# Altium footprint library 电阻.PcbLib: 32 footprints (part 1 of 2)
Each footprint in its own frame and in the unit in brackets; x right, y up, seen from the top. Pads: shape width x height; smd on the part's side, far side on the other; paste and mask are expansions set on the pad; w line width, h text height; cw(c..) or ccw(c..) is an arc to the next point about the centre after c.
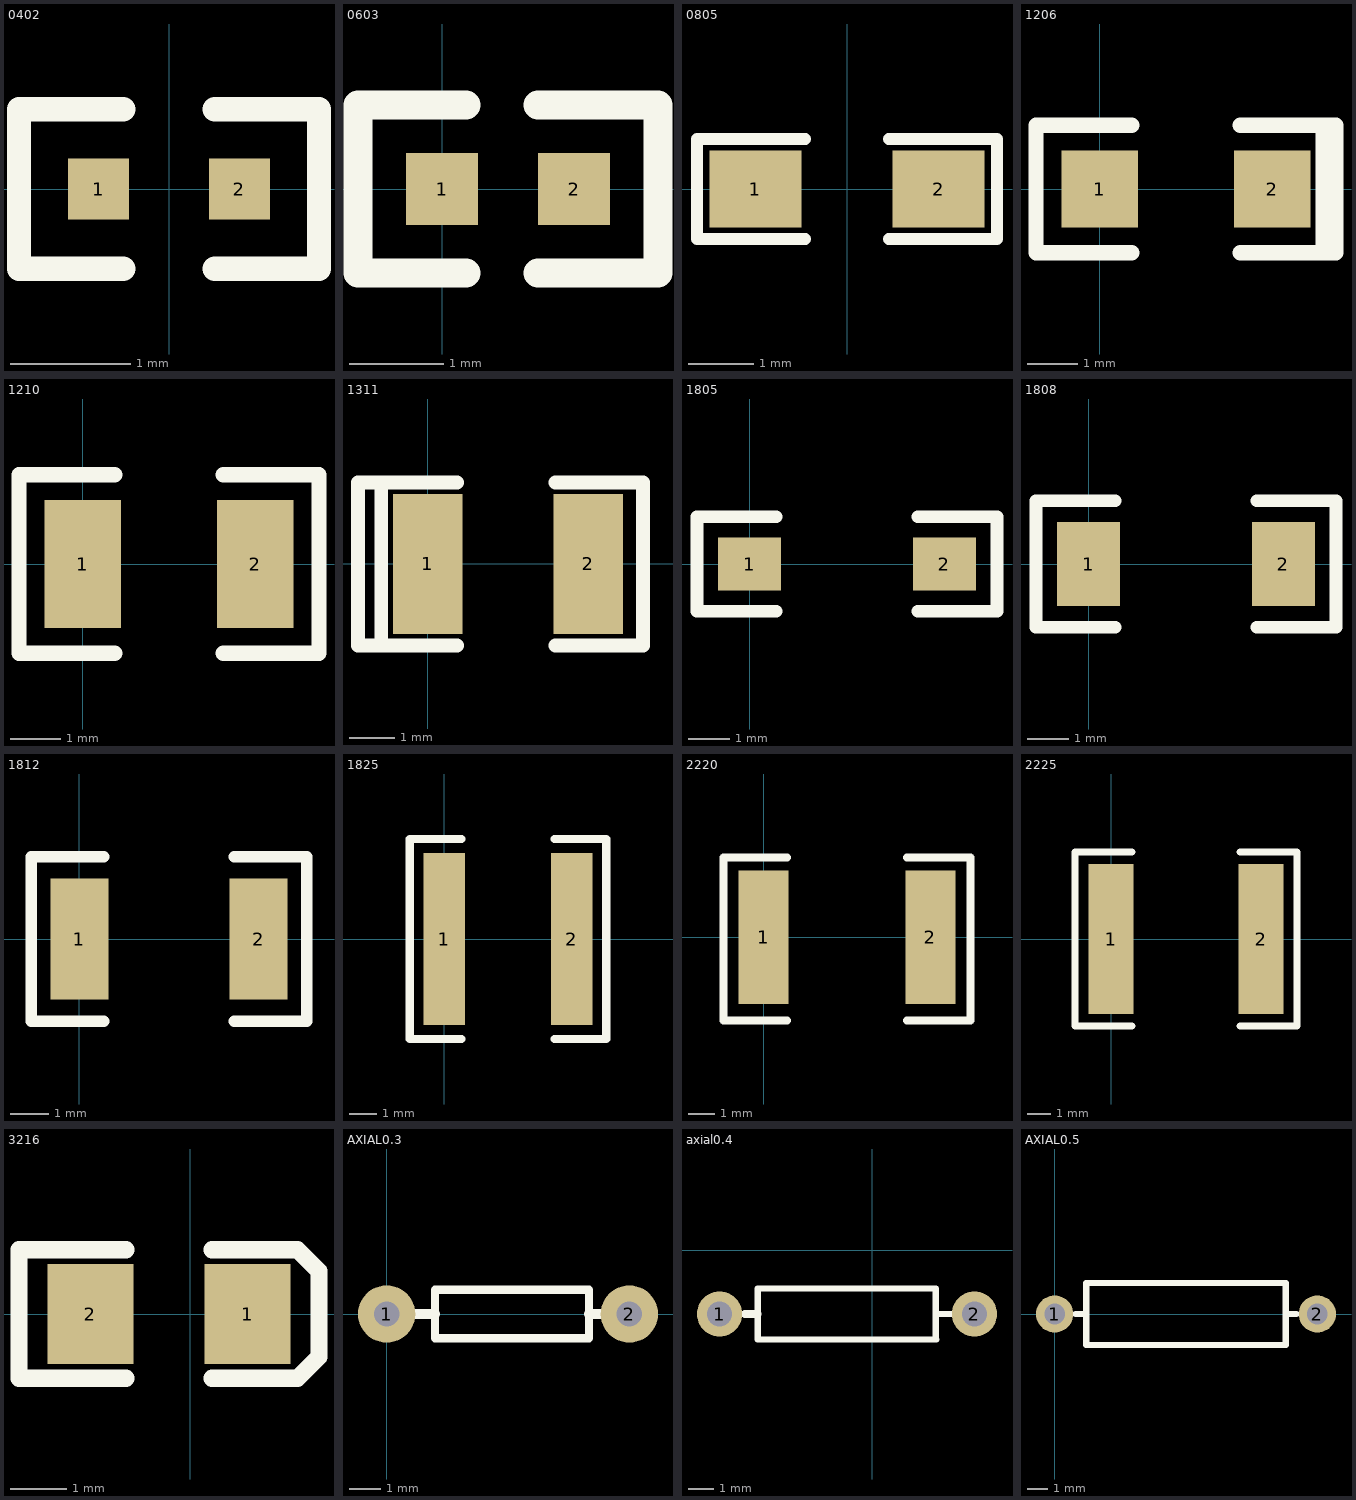
[diagram p0: the footprints below, top view; thin cyan lines are the x and y axes]

## 0402 [mil]
pads (2):
  rect 20x20 smd: 1(-23,0) 2(23,0)
Top Overlay:
  lines w8: -15,-26 -49,-26 -49,26 -15,26 ; 15,-26 49,-26 49,26 15,26
3D body "R0402.STEP": height 13.78, standoff 0, extent -19.69,-9.84 19.69,9.84

## 0603 [mil]
pads (2):
  rect 30x30 smd: 1(0,0) 2(55,0)
Top Overlay:
  lines w12: 10,-35 -35,-35 -35,35 10,35 ; 40,-35 90,-35 90,35 40,35
3D body "R0603.STEP": height 17.72, standoff 0, extent -6.5,-15.75 56.5,15.75

## 0805 [mil]
pads (2):
  rect 55.12x46 smd: 1(-55,0) 2(55,0)
Top Overlay:
  lines w7: -25,-30 -90,-30 -90,30 -25,30 ; 25,-30 90,-30 90,30 25,30
3D body "R0805.STEP": height 21.65, standoff 0, extent -39.36,-24.8 39.38,24.81

## 1206 [mil]
pads (2):
  rect 60x60 smd: 1(0,0) 2(135,0)
Top Overlay:
  lines w12: 25,-50 -50,-50 -50,50 25,50 ; 110,-50 185,-50 185,50 110,50 ; 175,-50 175,50
3D body "R1206.STEP": height 23.62, standoff 0, extent 2.01,-31.5 128,31.5

## 1210 [mil]
pads (2):
  rect 60x100 smd: 1(0,0) 2(135,0)
Top Overlay:
  lines w12: 25,-70 -50,-70 -50,70 25,70 ; 110,-70 185,-70 185,70 110,70
3D body "CAPC3225(1210).STEP": height 51.18, standoff 0, extent 2,-49.22 127.99,49.21

## 1311 [mil]
pads (2):
  rect 60x120 smd: 1(0,0) 2(138,0)
Top Overlay:
  lines w11.81: -60,-70 -60,70 ; -40,-70 -40,70
  lines w12: -60,-70 25,-70 ; -60,70 25,70 ; 110,-70 185,-70 185,70 110,70

## 1805 [mil]
pads (2):
  rect 60x50 smd: 1(0,0) 2(185,0)
Top Overlay:
  lines w12: 25,-45 -50,-45 -50,45 25,45 ; 160,-45 235,-45 235,45 160,45

## 1808 [mil]
pads (2):
  rect 60x80 smd: 1(0,0) 2(185,0)
Top Overlay:
  lines w12: 25,-60 -50,-60 -50,60 25,60 ; 160,-60 235,-60 235,60 160,60

## 1812 [mil]
pads (2):
  rect 60x125 smd: 1(0,0) 2(185,0)
Top Overlay:
  lines w12: 25,-85 -50,-85 -50,85 25,85 ; 160,-85 235,-85 235,85 160,85
3D body "CAPC4532(1812).STEP": height 39.37, standoff 0, extent 1.41,-63 178.58,62.99

## 1825 [mil]
pads (2):
  rect 60x250 smd: 1(0,0) 2(185,0)
Top Overlay:
  lines w12: 25,-145 -50,-145 -50,145 25,145 ; 160,-145 235,-145 235,145 160,145
3D body "CAPC4564(1825).STEP": height 59.06, standoff 0, extent 11.41,-125.99 188.58,125.98

## 2220 [mil]
pads (2):
  rect 75x200 smd: 1(0,0) 2(250,0)
Top Overlay:
  lines w12: 35,-125 -60,-125 -60,120 35,120 ; 215,-125 310,-125 310,120 215,120
3D body "CAPC5750(2220).STEP": height 90.55, standoff 0, extent 12.79,-98.43 237.2,98.42

## 2225 [mil]
pads (2):
  rect 75x250 smd: 1(0,0) 2(250,0)
Top Overlay:
  lines w12: 35,-145 -60,-145 -60,145 35,145 ; 215,-145 310,-145 310,145 215,145
3D body "CAPC5764(2225).STEP": height 51.18, standoff 0, extent 12.79,-125 237.2,125

## 3216 [mil]
pads (2):
  rect 60x70 smd: 1(40,0) 2(-70,0)
Top Overlay:
  lines w12: -45,-45 -120,-45 -120,45 -45,45 ; 15,-45 75,-45 90,-30 90,30 75,45 15,45

## AXIAL0.3 [mm]
pads (2):
  round 1.8 hole 0.8: 1(0,0) 2(7.62,0)
Top Overlay:
  lines w0.254: 1.524,-0.762 6.35,-0.762 6.35,0.762 1.524,0.762 1.524,-0.762
  lines w0.305: 0.762,0 1.524,0 ; 6.35,0 6.858,0
3D body "AXIAL0.3.STEP": height 2.24, standoff -1.27, extent -0.254,-0.971 7.874,0.971

## axial0.4 [mm]
pads (2):
  round 1.8 hole 1: 1(-6.096,-2.54) 2(4.064,-2.54)
Top Overlay:
  lines w0.254: 2.516,-3.532 2.516,-1.524 -4.572,-1.524 -4.572,-3.556 2.54,-3.556 ; 2.516,-2.54 3.302,-2.54
  lines w0.305: -5.08,-2.54 -4.572,-2.54
3D body "AXIAL-0.4-0.25W.STEP": height 3.26, standoff -2, extent -6.396,-3.8 4.364,-1.28

## AXIAL0.5 [mm]
pads (2):
  round 1.8 hole 1: 1(0,0) 2(12.7,0)
Top Overlay:
  lines w0.3: 11.176,-1.5 11.176,1.5
  lines w0.305: 1.016,0 1.524,0 ; 11.176,-1.5 1.524,-1.5 1.524,1.5 11.176,1.5 ; 11.176,0 11.684,0
3D body "AXIAL0.5.STEP": height 3.33, standoff -1.27, extent -0.381,-1.429 13.081,1.429